# Altium footprint library LAIRD_28C0236-0BW-10.PcbLib: 1 footprints
Each footprint in its own frame and in the unit in brackets; x right, y up, seen from the top. Pads: shape width x height; smd on the part's side, far side on the other; paste and mask are expansions set on the pad; w line width, h text height; cw(c..) or ccw(c..) is an arc to the next point about the centre after c.
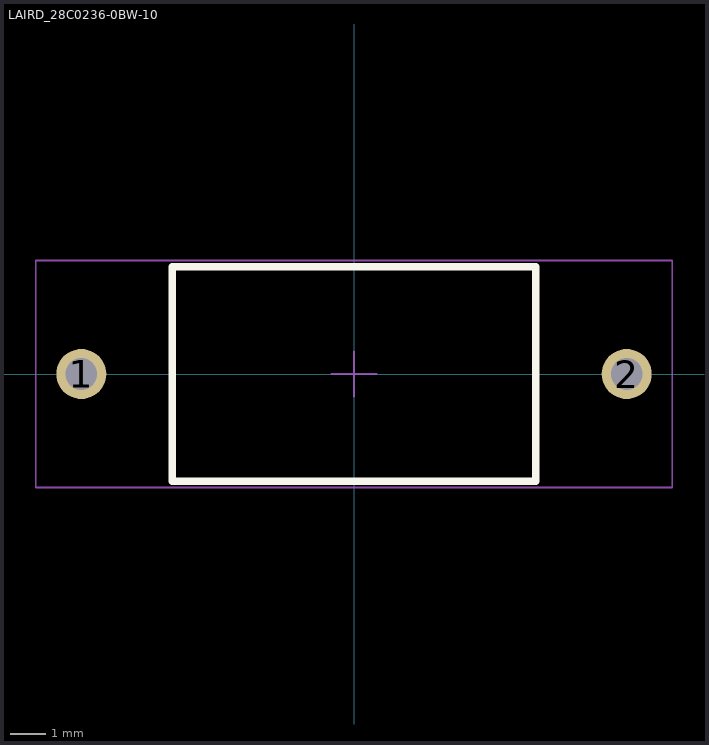
[diagram p0: the footprint, top view; thin cyan lines are the x and y axes]

## LAIRD_28C0236-0BW-10 [mil]
pads (2):
  round 55 hole 35: 1(-300,0) 2(300,0)
Top Overlay:
  lines w7.87: -200,-118 -200,118 200,118 200,-118 -200,-118
Mechanical 15:
  lines w1.97: -25,0 25,0 ; 0,-25 0,25 ; -350,-125 350,-125 350,125 -350,125 -350,-125
3D body: height 235.29, standoff 0, extent -196.85,-118.11 196.85,117.65